# EAGLE library part MICRO_SD_3M (library futz)
2908-05WB-MG 3M Micro SD Socket - Push/Push - SMD
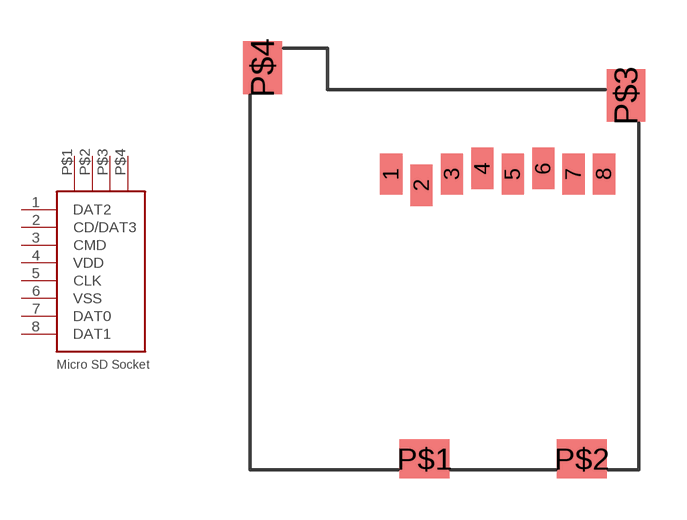
[diagram p0: symbol with the pads of MICRO_SD_3M; footprint MICRO_SD_3M]

Designator prefix -; gates G$1=MICRO_SD_3M G$2=GND G$3=GND G$4=GND G$5=GND

## MICRO_SD_3M  [MICRO_SD_3M]
1  G$1:DAT2
2  G$1:CD/DAT3
3  G$1:CMD
4  G$1:VDD  pwr
5  G$1:CLK  in
6  G$1:VSS  pwr
7  G$1:DAT0
8  G$1:DAT1
P$1  G$2:GND  pwr
P$2  G$3:GND  pwr
P$3  G$4:GND  pwr
P$4  G$5:GND  pwr

## Footprint MICRO_SD_3M (pad centres in mm)
smd 0.8 x 1.5: 1 -1.57,4.65; 2 -0.47,4.25; 3 0.63,4.65; 4 1.73,4.85; 5 2.83,4.65; 6 3.93,4.85; 7 5.03,4.65; 8 6.13,4.65
smd 1.8 x 1.4: P$1 -0.37,-5.65; P$2 5.33,-5.65
smd 1.4 x 1.9: P$3 6.93,7.5; P$4 -6.22,8.5